# EAGLE library part 74AC11280 (library 74ac-logic)
9-bit PARITY GENERATOR/CHECKER
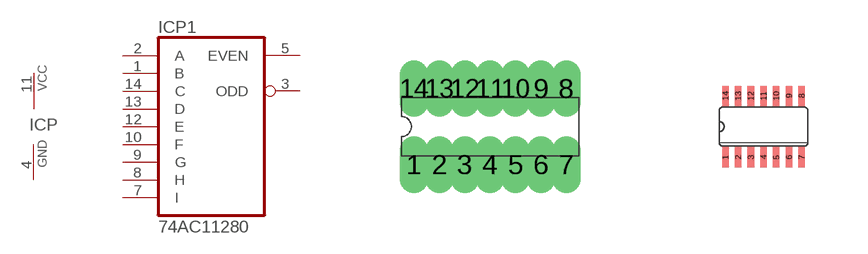
[diagram p38: symbol with the pads of DIL14; footprints DIL14, SO14]

Designator prefix IC; gates P=PWRN P1=7411280

## 74AC11280  [DIL14]
1  P1:B  in
2  P1:A  in
3  P1:ODD  out
4  P:GND  pwr
5  P1:EVEN  out
7  P1:I  in
8  P1:H  in
9  P1:G  in
10  P1:F  in
11  P:VCC  pwr
12  P1:E  in
13  P1:D  in
14  P1:C  in

## 74AC11280D  [SO14]
Pads as for DIL14

## Footprint DIL14 (pad centres in mm)
Dual In Line Package
drill 0.203 long: 1 -1.905,-0.953; 2 -1.27,-0.953; 3 -0.635,-0.953; 4 0,-0.953; 5 0.635,-0.953; 6 1.27,-0.953; 7 1.905,-0.953; 8 1.905,0.953; 9 1.27,0.953; 10 0.635,0.953; 11 0,0.953; 12 -0.635,0.953; 13 -1.27,0.953; 14 -1.905,0.953

## Footprint SO14 (pad centres in mm)
Small Outline package 150 mil
smd 0.165 x 0.508: 1 -0.953,-0.768; 2 -0.635,-0.768; 3 -0.318,-0.768; 4 0,-0.768; 5 0.318,-0.768; 6 0.635,-0.768; 7 0.953,-0.768; 8 0.953,0.768; 9 0.635,0.768; 10 0.318,0.768; 11 0,0.768; 12 -0.318,0.768; 13 -0.635,0.768; 14 -0.953,0.768